# EAGLE library part DS92001 (library texas-instruments)
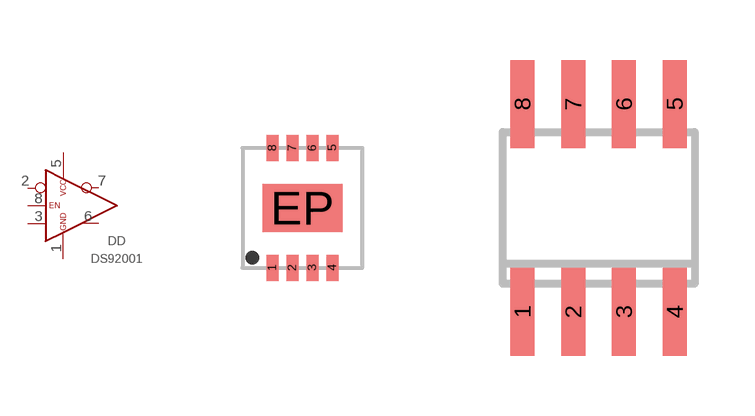
[diagram p28: symbol with the pads of WSON8; footprints WSON8, SOIC8]

Designator prefix DD

## DS92001TLD  [WSON8]
1  GND  pwr
2  IN-  in
3  IN+  in
5  VCC  pwr
6  OUT+  out
7  OUT-  out
8  EN  in

## DS92001TMA  [SOIC8]
Pads as for WSON8

## DS92001TMAX  [SOIC8]
Pads as for WSON8

## Footprint WSON8 (pad centres in mm)
smd 0.3 x 0.65: 1 -0.75,-1.5; 2 -0.25,-1.5; 3 0.25,-1.5; 4 0.75,-1.5; 5 0.75,1.5; 6 0.25,1.5; 7 -0.25,1.5; 8 -0.75,1.5
smd 2 x 1.2: EP 0,0

## Footprint SOIC8 (pad centres in mm)
Small Outline IC
smd 0.6 x 2.2: 1 -1.905,-2.6; 2 -0.635,-2.6; 3 0.635,-2.6; 4 1.905,-2.6; 5 1.905,2.6; 6 0.635,2.6; 7 -0.635,2.6; 8 -1.905,2.6